# EAGLE library part ADP7158ARDZ-2.5-R7CT-ND (library lupa300-components)
Linear Voltage Regulator IC Positive Fixed 1 Output 2.5V 2A 8-SOIC-EP
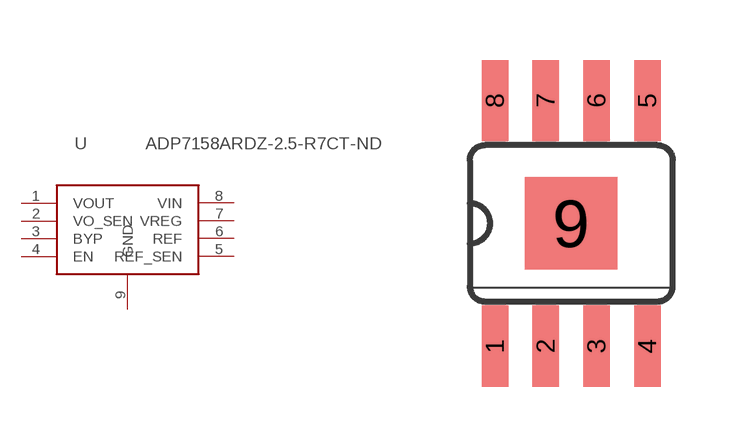
[diagram p4: symbol with the pads of SO08; footprint SO08]

Designator prefix -

## ADP7158ARDZ-2.5-R7CT-ND  [SO08]
1  VOUT
2  VO_SEN
3  BYP
4  EN
5  REF_SEN
6  REF
7  VREG
8  VIN
9  GND

## Footprint SO08 (pad centres in mm)
Small Outline Package SOIC 150 mil
smd 0.66 x 2.032: 1 -1.905,-3.073; 2 -0.635,-3.073; 3 0.635,-3.073; 4 1.905,-3.073; 5 1.905,3.073; 6 0.635,3.073; 7 -0.635,3.073; 8 -1.905,3.073
smd 2.311 x 2.311: 9 0,0